# Altium schematic symbol library MAX30102.SchLib: 1 symbol
Pins are listed as number, name and electrical type; pins without a type are passive.

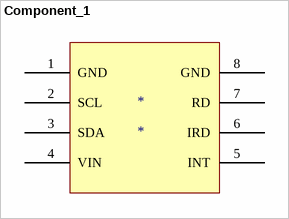
[diagram p0: symbol Component_1]

## Component_1
designator *
pins: 1 GND, 2 SCL, 3 SDA, 4 VIN, 5 INT, 6 IRD, 7 RD, 8 GND